# Altium schematic symbol library connector_4pin.SchLib: 1 symbol
Pins are listed as number, name and electrical type; pins without a type are passive.

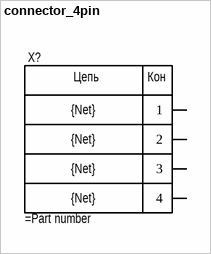
[diagram p0: symbol connector_4pin]

## connector_4pin
designator X?  Parameter 2: {Net}
Parameter 1: {Net}; Parameter 3: {Net}; Parameter 4: {Net}
pins: 1, 2, 3, 4
text: Цепь; Кон